# Altium footprint library MitchSwitch_Bypass.PCBLIB: 270 footprints (part 11 of 17)
Each footprint in its own frame and in the unit in brackets; x right, y up, seen from the top. Pads: shape width x height; smd on the part's side, far side on the other; paste and mask are expansions set on the pad; w line width, h text height; cw(c..) or ccw(c..) is an arc to the next point about the centre after c.
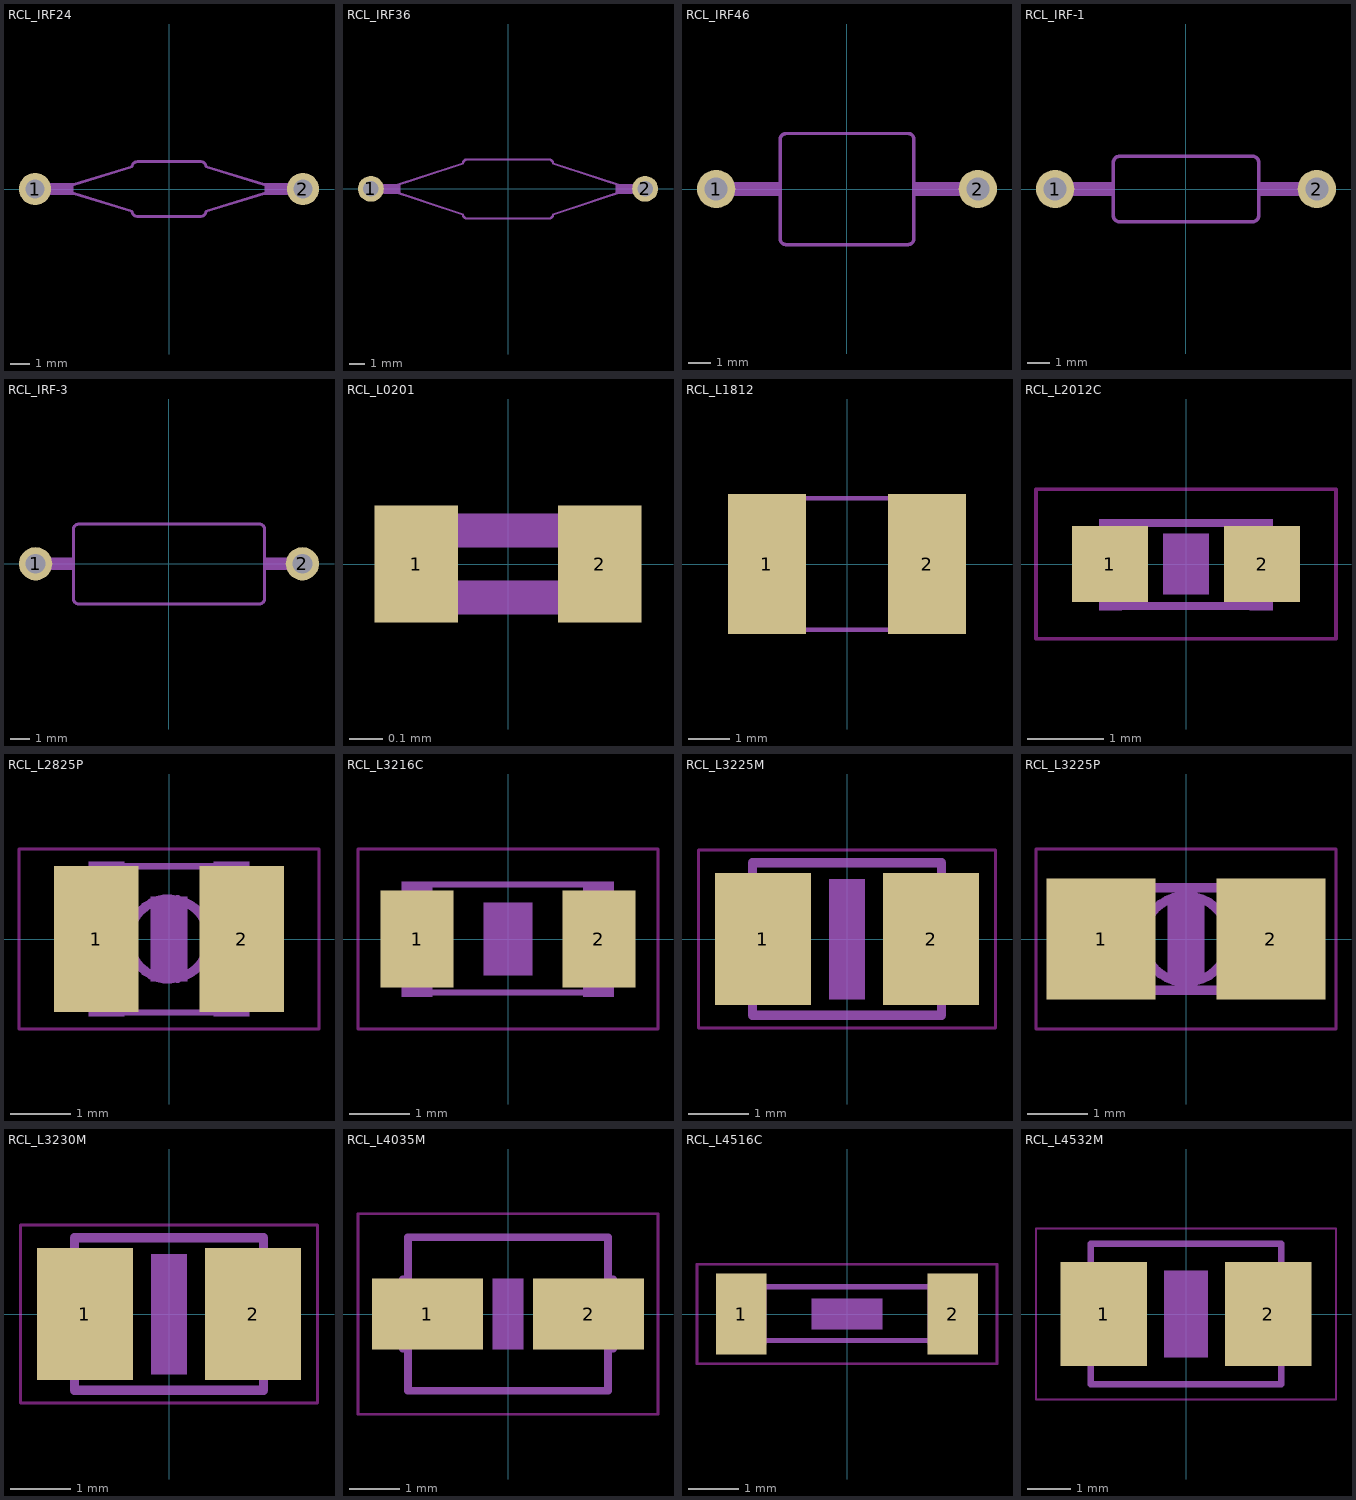
[diagram p10: the footprints below, top view; thin cyan lines are the x and y axes]

## RCL_IRF24 [mil]
pads (2):
  round 66 hole 39.37: 1(-275,0) 2(275,0)
Mechanical 3:
  lines w24: -275,0 -232.87,0 ; 229.33,0 275,0
Mechanical 7:
  region: 196.85,-12 196.85,12 229.33,12 229.33,-12
  region: -230.32,-12 -230.32,12 -196.85,12 -196.85,-12
  lines w6: -225.39,0 -75.79,-45.83 ccw(c-65.73,-46.04) -65.94,-56.1 65.94,-56.1 ccw(c65.73,-46.04) 75.79,-45.83 225.39,0 75.79,45.83 ccw(c65.73,46.04) 65.94,56.1 -64.96,56.1 ccw(c-65.24,45.55) -75.79,45.83 -225.39,0

## RCL_IRF36 [mil]
pads (2):
  round 66 hole 39.37: 1(-350,0) 2(350,0)
Mechanical 3:
  lines w24: -350,0 -311.61,0 ; 308.07,0 350,0
Mechanical 7:
  region: 275.59,-12 275.59,12 316.93,12 316.93,-12
  region: -316.93,-12 -316.93,12 -275.59,12 -275.59,-12
  lines w6: -312.99,0 -115.16,-65.51 ccw(c-105.1,-65.73) -105.32,-75.79 105.32,-75.79 ccw(c105.1,-65.73) 115.16,-65.51 312.99,0 115.16,64.53 ccw(c105.11,64.75) 105.32,74.8 -104.33,74.8 ccw(c-104.61,64.25) -115.16,64.53 -312.99,0

## RCL_IRF46 [mil]
pads (2):
  round 66 hole 39.37: 1(-225,0) 2(225,0)
Mechanical 3:
  lines w24: -225,0 -175,0 ; 175,0 225,0
Mechanical 7:
  region: 115.16,-12 115.16,12 192.91,12 192.91,-12
  region: -193.9,-12 -193.9,12 -115.16,12 -115.16,-12
  lines w6: -115.16,-85.2 ccw(c-105.11,-85.42) -105.32,-95.47 105.32,-95.47 ccw(c105.11,-85.42) 115.16,-85.2 115.16,85.2 ccw(c105.11,85.42) 105.32,95.47 -104.33,95.47 ccw(c-104.61,84.92) -115.16,85.2 -115.16,-85.2

## RCL_IRF-1 [mil]
pads (2):
  round 66 hole 39.37: 1(-225,0) 2(225,0)
Mechanical 3:
  lines w24: -225,0 -160,0 ; 160,0 225,0
Mechanical 7:
  region: 125,-12 125,12 165.35,12 165.35,-12
  region: -165.35,-12 -165.35,12 -125,12 -125,-12
  lines w6: -125,-45.83 ccw(c-114.94,-46.05) -115.16,-56.1 115.16,-56.1 ccw(c114.94,-46.05) 125,-45.83 125,45.83 ccw(c114.94,46.05) 115.16,56.1 -114.17,56.1 ccw(c-114.45,45.55) -125,45.83 -125,-45.83

## RCL_IRF-3 [mil]
pads (2):
  round 66 hole 39.37: 1(-263.98,0) 2(264.96,0)
Mechanical 3:
  lines w24: -263.98,0 -205.71,0 ; 204.72,0 264.96,0
Mechanical 7:
  region: 189.96,-12 189.96,12 204.72,12 204.72,-12
  region: -204.72,-12 -204.72,12 -188.98,12 -188.98,-12
  lines w6: -188.98,-69.45 ccw(c-178.92,-69.66) -179.13,-79.72 180.12,-79.72 ccw(c179.91,-69.67) 189.96,-69.45 189.96,68.46 ccw(c179.9,68.68) 180.12,78.74 -178.15,78.74 ccw(c-178.43,68.19) -188.98,68.46 -188.98,-69.45

## RCL_L0201 [mm]
pads (2):
  rect 0.25x0.35 smd: 1(-0.275,0) 2(0.275,0)
Mechanical 3:
  region: -0.3,-0.15 -0.3,0.15 -0.15,0.15 -0.15,-0.15
  region: 0.15,-0.15 0.15,0.15 0.3,0.15 0.3,-0.15
  region: -0.15,0.05 -0.15,0.15 0.15,0.15 0.15,0.05
  region: -0.15,-0.15 -0.15,-0.05 0.15,-0.05 0.15,-0.15

## RCL_L1812 [mil]
pads (2):
  rect 74.8x133.86 smd: 1(-76.77,0) 2(76.77,0)
Mechanical 3:
  region: -94,-65 -94,64.92 -56.6,64.92 -56.6,-65
  region: 57,-65 57,64.92 94.4,64.92 94.4,-65
  lines w4: -58,63 58,63 ; -57,-63 58,-63

## RCL_L2012C [mm]
pads (2):
  rect 1x1 smd: 1(-1,0) 2(1,0)
Top Layer keep-out:
  lines w0.051: -1.973,-0.983 1.973,-0.983 1.973,0.983 -1.973,0.983 -1.973,-0.983
Mechanical 3:
  region: -1.143,-0.61 -1.143,0.59 -0.843,0.59 -0.843,-0.61
  region: 0.838,-0.61 0.838,0.59 1.138,0.59 1.138,-0.61
  lines w0.102: -0.864,-0.553 0.864,-0.553 ; -0.864,0.54 0.864,0.54
Top Glue Points:
  region: -0.3,-0.4 -0.3,0.4 0.3,0.4 0.3,-0.4

## RCL_L2825P [mil]
pads (2):
  rect 55.12x94.49 smd: 1(-47.24,0) 2(47.24,0)
Top Layer keep-out:
  lines w2: -97.36,-58.39 97.36,-58.39 97.36,58.39 -97.36,58.39 -97.36,-58.39
Mechanical 3:
  circle w6: c0,0 r26
  region: 29,-50 29,50 52,50 52,-50
  region: -52,-50 -52,50 -29,50 -29,-50
  lines w4: -52.76,-37.99 -52.76,37.99 ; -30,-47.76 30,-47.76 ; -30,47.24 30,47.24 ; 52.76,-37.99 52.76,37.99
Top Glue Points:
  region: -11.81,-27.56 -11.81,27.56 11.81,27.56 11.81,-27.56

## RCL_L3216C [mil]
pads (2):
  rect 47.24x62.99 smd: 1(-59.06,0) 2(59.06,0)
Top Layer keep-out:
  lines w2: -97.36,-58.39 97.36,-58.39 97.36,58.39 -97.36,58.39 -97.36,-58.39
Mechanical 3:
  region: -69,-37.5 -69,37.3 -49.31,37.3 -49.31,-37.5
  region: 49,-37.5 49,37.3 68.69,37.3 68.69,-37.5
  lines w4: -50,-34.76 50,-34.76 ; -50,35.28 50,35.28
Top Glue Points:
  region: -15.75,-23.62 -15.75,23.62 15.75,23.62 15.75,-23.62

## RCL_L3225M [mil]
pads (2):
  rect 62.99x86.61 smd: 1(-55.12,0) 2(55.12,0)
Top Layer keep-out:
  lines w2: -97.36,-58.39 97.36,-58.39 97.36,58.39 -97.36,58.39 -97.36,-58.39
Mechanical 3:
  lines w6: -65,-37.01 -65,37.01 ; 65,-37.01 65,37.01 ; -62.01,-50 62.01,-50 62.01,50 -62.01,50 -62.01,-50
Top Glue Points:
  region: -11.81,-39.37 -11.81,39.37 11.81,39.37 11.81,-39.37

## RCL_L3225P [mm]
pads (2):
  rect 1.8x2 smd: 1(-1.4,0) 2(1.4,0)
Top Layer keep-out:
  lines w0.051: -2.473,-1.483 2.473,-1.483 2.473,1.483 -2.473,1.483 -2.473,-1.483
Mechanical 3:
  circle w0.152: c0,0 r0.712
  lines w0.152: -1.676,-0.845 1.676,-0.845 ; -1.676,-0.838 -1.676,0.838 ; -1.676,0.845 1.676,0.845 ; -1.168,-0.838 -1.168,0.838 ; 1.168,-0.838 1.168,0.838 ; 1.676,-0.838 1.676,0.838
Top Glue Points:
  region: -0.3,-0.7 -0.3,0.7 0.3,0.7 0.3,-0.7

## RCL_L3230M [mil]
pads (2):
  rect 62.99x86.61 smd: 1(-55.12,0) 2(55.12,0)
Top Layer keep-out:
  lines w2: -97.36,-58.39 97.36,-58.39 97.36,58.39 -97.36,58.39 -97.36,-58.39
Mechanical 3:
  lines w6: -65,-37.01 -65,37.01 ; 65,-37.01 65,37.01 ; -62.01,-50 62.01,-50 62.01,50 -62.01,50 -62.01,-50
Top Glue Points:
  region: -11.81,-39.37 -11.81,39.37 11.81,39.37 11.81,-39.37

## RCL_L4035M [mil]
pads (2):
  rect 86.61x55.12 smd: 1(-62.99,0) 2(62.99,0)
Top Layer keep-out:
  lines w2: -117.05,-78.07 117.05,-78.07 117.05,78.07 -117.05,78.07 -117.05,-78.07
Mechanical 3:
  lines w6: -82.01,-27.01 -82.01,27.01 ; 82.01,-27.01 82.01,27.01 ; -77.99,-60 -77.99,60 77.99,60 77.99,-60 -77.99,-60
Top Glue Points:
  region: -11.81,-27.56 -11.81,27.56 11.81,27.56 11.81,-27.56

## RCL_L4516C [mm]
pads (2):
  rect 1x1.6 smd: 1(-2.1,0) 2(2.1,0)
Top Layer keep-out:
  lines w0.051: -2.973,-0.983 2.973,-0.983 2.973,0.983 -2.973,0.983 -2.973,-0.983
Mechanical 3:
  region: -2.4,-0.597 -2.4,0.603 -1.6,0.603 -1.6,-0.597
  region: 1.6,-0.603 1.6,0.597 2.4,0.597 2.4,-0.603
  lines w0.102: -1.626,-0.527 1.626,-0.527 ; -1.626,0.54 1.626,0.54
Top Glue Points:
  region: -0.7,-0.3 -0.7,0.3 0.7,0.3 0.7,-0.3

## RCL_L4532M [mm]
pads (2):
  rect 2x2.4 smd: 1(-1.9,0) 2(1.9,0)
Top Layer keep-out:
  lines w0.051: -3.473,-1.983 3.473,-1.983 3.473,1.983 -3.473,1.983 -3.473,-1.983
Mechanical 3:
  lines w0.152: -2.337,-1.041 -2.337,1.041 ; 2.337,-1.041 2.337,1.041 ; -2.21,-1.626 2.21,-1.626 2.21,1.626 -2.21,1.626 -2.21,-1.626
Top Glue Points:
  region: -0.5,-1 -0.5,1 0.5,1 0.5,-1